# EAGLE library part SDA12 (library zetex)
DIODE ARRAY
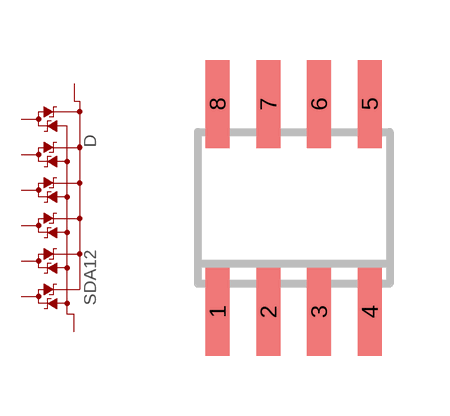
[diagram p13: symbol with the pads of SO8; footprint SO8]

Designator prefix D

## SDA12 (OC_FARNELL: 9802282; OC_NEWARK: unknown)  [SO8]
1  V+  pas
2  D01  pas
3  D02  pas
4  D03  pas
5  V-  pas
6  D04  pas
7  D05  pas
8  D06  pas

## Footprint SO8 (pad centres in mm)
SMALL OUTLINE INTEGRATED CIRCUIT SOP-8L Source: http://www.diodes.com/datasheets/ds31262.pdf
smd 0.6 x 2.2: 1 -1.905,-2.6; 2 -0.635,-2.6; 3 0.635,-2.6; 4 1.905,-2.6; 5 1.905,2.6; 6 0.635,2.6; 7 -0.635,2.6; 8 -1.905,2.6